# Altium footprint library TO220HW.PcbLib: 1 footprints
Each footprint in its own frame and in the unit in brackets; x right, y up, seen from the top. Pads: shape width x height; smd on the part's side, far side on the other; paste and mask are expansions set on the pad; w line width, h text height; cw(c..) or ccw(c..) is an arc to the next point about the centre after c.
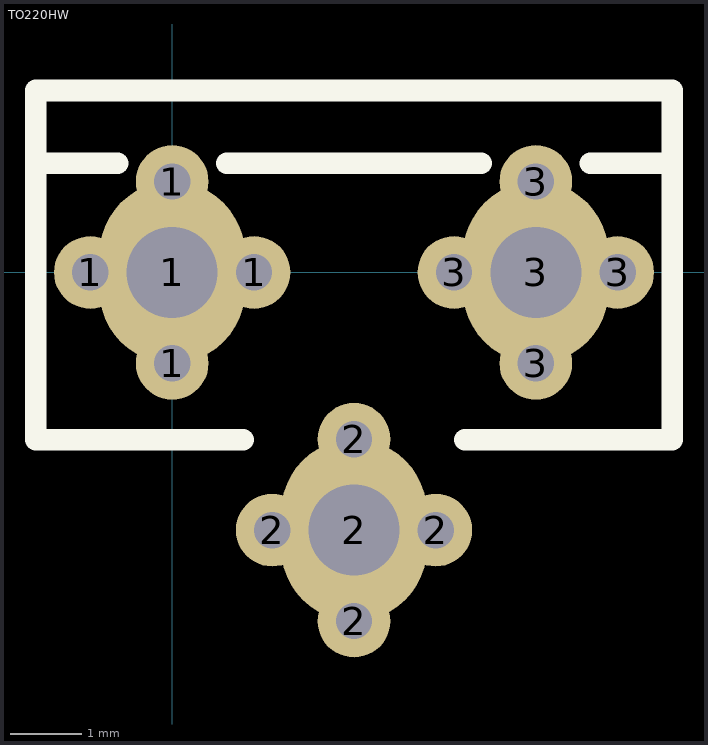
[diagram p0: the footprint, top view; thin cyan lines are the x and y axes]

## TO220HW [mil]
pads (15):
  round 40 hole 20: 1(-45,0) 1(0,-50) 1(0,50) 1(45,0) 2(55,-141.73) 2(100,-191.73) 2(100,-91.73) 2(145,-141.73) 3(155,0) 3(200,-50) 3(200,50) 3(245,0)
  oval 80x100 hole 50: 1(0,0) 2(100,-141.73) 3(200,0)
Top Overlay:
  lines w12: -75,-92 -75,60 ; -74,-92 39,-92 ; -30,60 -75,60 ; 30,60 170,60 ; 161,-92 274,-92 ; 230,60 275,60 ; 275,-92 275,60 ; -75,60 -75,100 275,100 275,60